# Altium schematic symbol library LP2951-30D.SchLib: 2 symbols
Pins are listed as number, name and electrical type; pins without a type are passive.

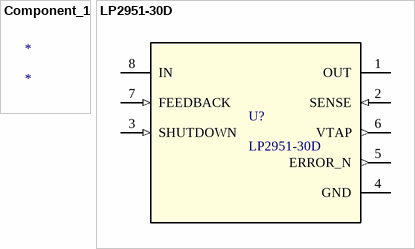
[diagram p0: symbols Component_1 to LP2951-30D]

## Component_1
designator *

## LP2951-30D
designator U?
No Description Available; Mfr_Name: Texas Instruments; Type: DEV; RefDes: RefDes; Copyright: Copyright (C) 2022 Ultra Librarian. All rights reserved.; Manufacturer_Part_Number: LP2951-30D
footprint D0008A_N
pins: 1 OUT (power), 2 SENSE (in), 3 SHUTDOWN (in), 4 GND (power), 5 ERROR_N (out), 6 VTAP (out), 7 FEEDBACK (in), 8 IN (power)